# Altium schematic symbol library SG_SCH_Unsorted.SchLib: 71 symbols
Pins are listed as number, name and electrical type; pins without a type are passive.

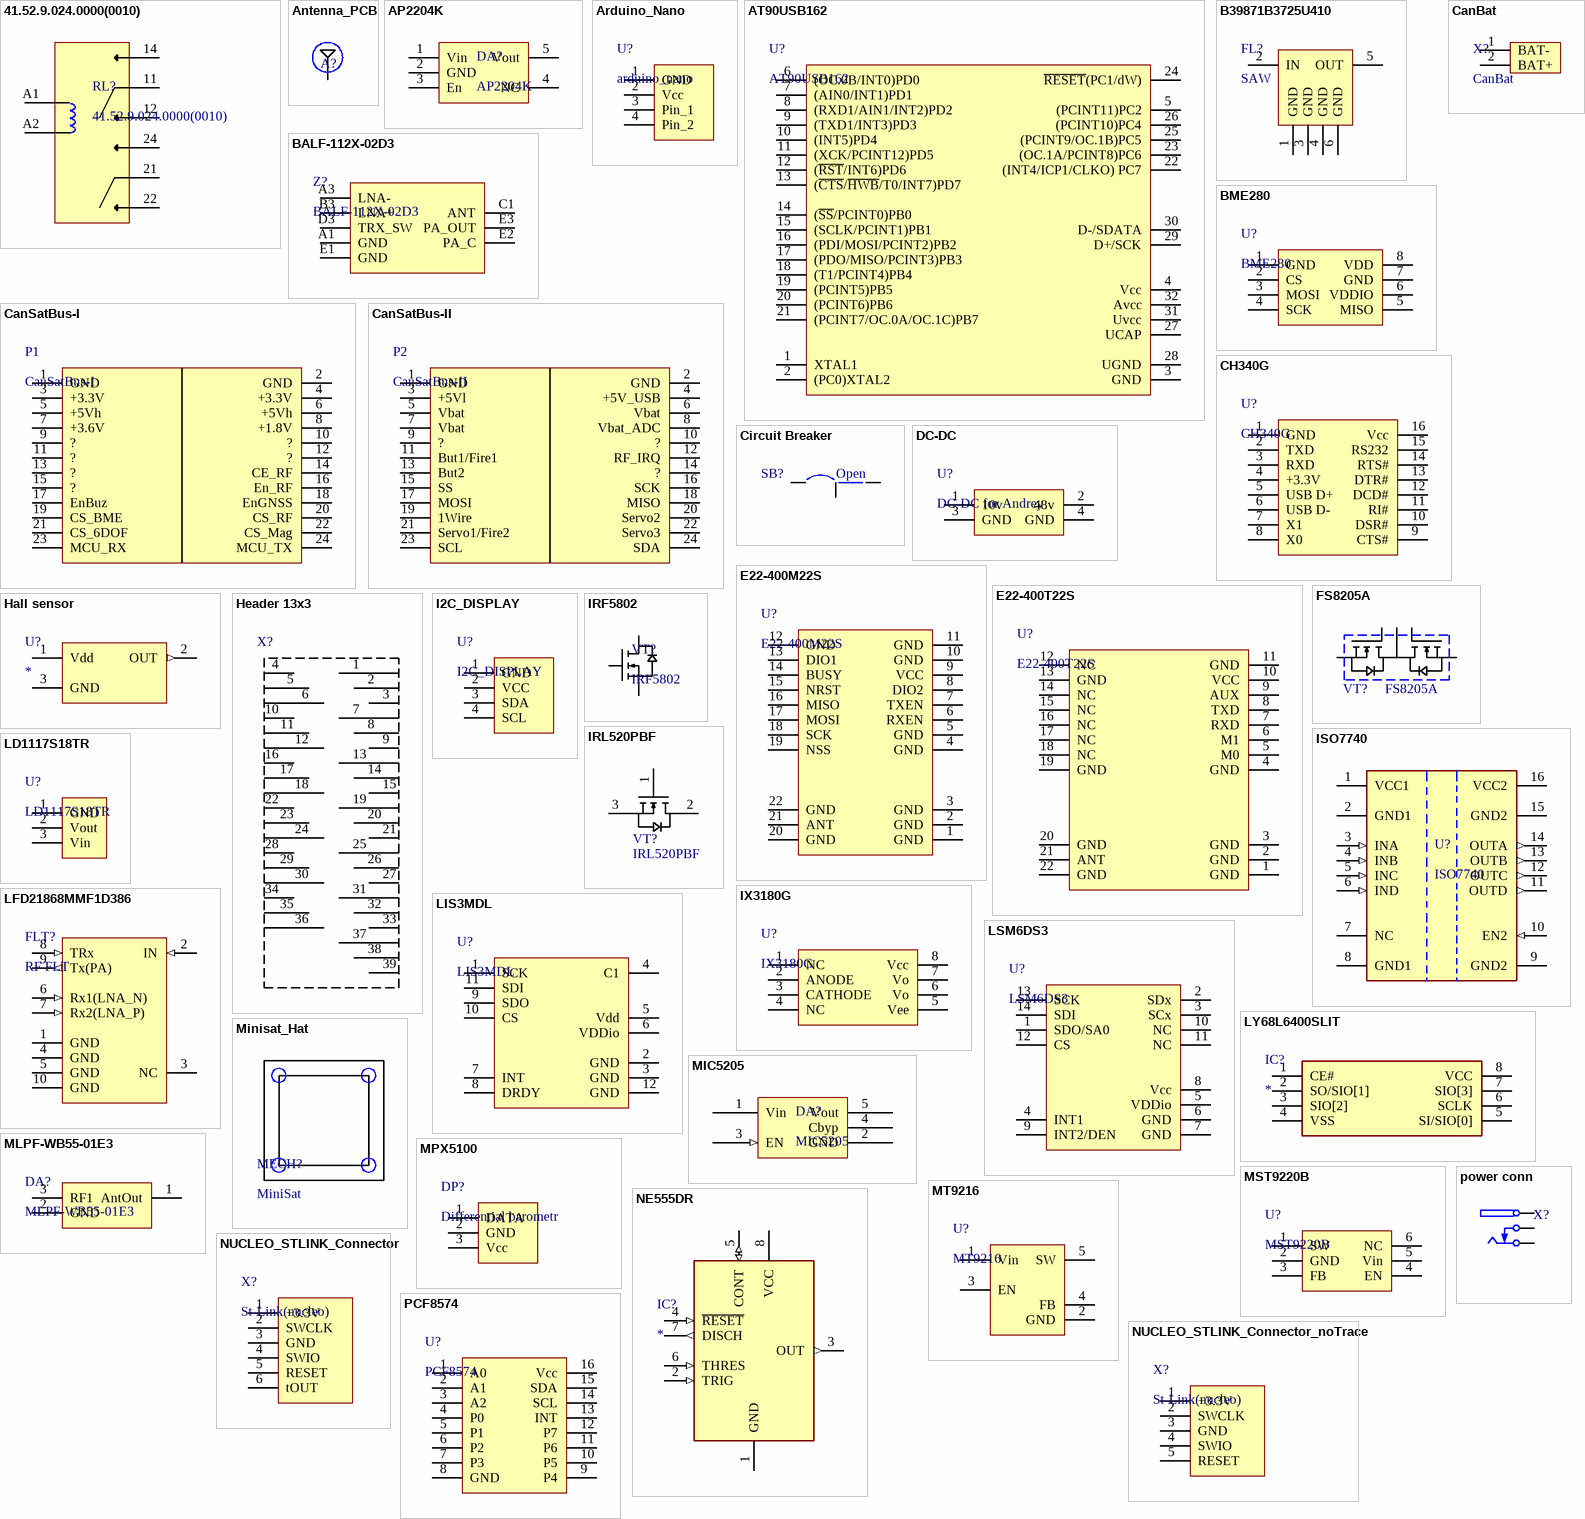
[diagram p0: symbols 41.52.9.024.0000(0010) to power conn]

## 41.52.9.024.0000(0010)
designator RL?
24V relay 2 группы контактов 8 A; DefaultOrder: NRP05-A12DH-S; OriginalSource: AltTab+CanSat; Order: *
footprint 41.52 (relay)
pins: 11, 12, 14, 21, 22, 24, A1, A2

## Antenna_PCB
designator A?, comment Ant_PCB  (value not drawn)
OriginalSource: AltTab+CanSat; Order: *
footprint Ant_PCB_868
pins: 1

## AP2204K
designator DA?
Ultra low drop voltage regulator; OriginalSource: AltTab+CanSat; Order: *; HelpURL: https://datasheet.lcsc.com/szlcsc/Diodes-Incorporated-AP2204K-5-0TRG1_C112031.pdf
footprint SOT23-5
pins: 1 Vin, 2 GND, 3 En, 4 NC, 5 Vout

## Arduino_Nano
designator U?, comment arduino_nano
8-bit on plate controller; OriginalSource: AltTab+CanSat
pins: 1 GND, 2 Vcc, 3 Pin_1, 4 Pin_2

## AT90USB162
designator U?
OriginalSource: AltTab+CanSat
footprint TQFP-32 (TQFP, 32-Leads, Body 7,00x7,00mm, Pitch 0,80mm, IPC Medium Density)
pins: 1 XTAL1, 2 (PC0)XTAL2, 3 GND, 4 Vcc, 5 (PCINT11)PC2, 6 (OC.0B/INT0)PD0, 7 (AIN0/INT1)PD1, 8 (RXD1/AIN1/INT2)PD2, 9 (TXD1/INT3)PD3, 10 (INT5)PD4, 11 (XCK/PCINT12)PD5, 12 (~{RST}/INT6)PD6, 13 (~{CTS}/~{HWB}/T0/INT7)PD7, 14 (~{SS}/PCINT0)PB0, 15 (SCLK/PCINT1)PB1, 16 (PDI/MOSI/PCINT2)PB2, 17 (PDO/MISO/PCINT3)PB3, 18 (T1/PCINT4)PB4, 19 (PCINT5)PB5, 20 (PCINT6)PB6, 21 (PCINT7/OC.0A/OC.1C)PB7, 22 (INT4/ICP1/CLKO) PC7, 23 (OC.1A/PCINT8)PC6, 24 ~{RESET}(PC1/dW), 25 (PCINT9/OC.1B)PC5, 26 (PCINT10)PC4, 27 UCAP, 28 UGND, 29 D+/SCK, 30 D-/SDATA, 31 Uvcc, 32 Avcc

## B39871B3725U410
designator FL?, comment SAW
DefaultOrder: B39871B3725U410*; OriginalSource: AltTab+CanSat
footprint QFN120P300X300X110-6M (QFN, 6-Leads, Body 3,00x3,00mm, Pitch 1,20mm/2,25mm, IPC Low Density)
pins: 1 GND (power), 2 IN (power), 3 GND (power), 4 GND (power), 5 OUT (power), 6 GND (power)

## BALF-112X-02D3
designator Z?
balun for CC112x , CC1125; OriginalSource: AltTab+CanSat
footprint BALF-112X-02D3 (balun for CC112x)
pins: A1 GND, A3 LNA-, B3 LNA+, C1 ANT, D3 TRX_SW, E1 GND, E2 PA_C, E3 PA_OUT

## BME280
designator U?
Temp/Baro/Hum sensor; OriginalSource: AltTab+CanSat; DefaultOrder: BME280
footprint LGA-8_BME280-1 (BME280)
pins: 1 GND, 2 CS, 3 MOSI, 4 SCK, 5 MISO, 6 VDDIO, 7 GND, 8 VDD

## CanBat
designator X?
1S Battery; OriginalSource: AltTab+CanSat; Order: *
footprint CanBatFootprint (General battery connector)
pins: 1 BAT- (power), 2 BAT+ (power)

## CanSatBus-I
designator P1
24 pin cansat universal bus; OriginalSource: AltTab+CanSat
footprint PLD-24-2.54
footprint PBD-24-2.54
pins: 1 GND, 2 GND, 3 +3.3V, 4 +3.3V, 5 +5Vh, 6 +5Vh, 7 +3.6V, 8 +1.8V, 9 ?, 10 ?, 11 ?, 12 ?, 13 ?, 14 CE_RF, 15 ?, 16 En_RF, 17 EnBuz, 18 EnGNSS, 19 CS_BME, 20 CS_RF, 21 CS_6DOF, 22 CS_Mag, 23 MCU_RX, 24 MCU_TX

## CanSatBus-II
designator P2
24 pin cansat universal bus; OriginalSource: AltTab+CanSat
footprint PBD-24-2.54
footprint PLD-24-2.54
pins: 1 GND, 2 GND, 3 +5Vl, 4 +5V_USB, 5 Vbat, 6 Vbat, 7 Vbat, 8 Vbat_ADC, 9 ?, 10 ?, 11 But1/Fire1, 12 RF_IRQ, 13 But2, 14 ?, 15 SS, 16 SCK, 17 MOSI, 18 MISO, 19 1Wire, 20 Servo2, 21 Servo1/Fire2, 22 Servo3, 23 SCL, 24 SDA

## CH340G
designator U?
low cost uart-usb converter; OriginalSource: AltTab+CanSat
footprint SOP16
pins: 1 GND, 2 TXD, 3 RXD, 4 +3.3V, 5 USB D+, 6 USB D-, 7 X1, 8 X0, 9 CTS#, 10 DSR#, 11 RI#, 12 DCD#, 13 DTR#, 14 RTS#, 15 RS232, 16 Vcc

## Circuit Breaker
designator SB?, comment Open
Switch OpenClose; OriginalSource: AltTab+CanSat; Revision: July-2002: Re-released for DXP Platform.
footprint SB_3pads (SMD Switch on 3 pads)
pins: 1, 2, 3

## DC-DC
designator U?, comment DC-DC for Andrey
DC-DC unkown; OriginalSource: AltTab+CanSat
pins: 1 10v, 2 48v, 3 GND, 4 GND

## E22-400M22S
designator U?
small smd lora tranceiver; OriginalSource: AltTab+CanSat
footprint E22-400M22S
pins: 1 GND, 2 GND, 3 GND, 4 GND, 5 GND, 6 RXEN, 7 TXEN, 8 DIO2, 9 VCC, 10 GND, 11 GND, 12 GND, 13 DIO1, 14 BUSY, 15 NRST, 16 MISO, 17 MOSI, 18 SCK, 19 NSS, 20 GND, 21 ANT, 22 GND

## E22-400T22S
designator U?
small smd lora tranceiver with embedded cpu; OriginalSource: AltTab+CanSat
footprint E22-400T22S
pins: 1 GND, 2 GND, 3 GND, 4 GND, 5 M0, 6 M1, 7 RXD, 8 TXD, 9 AUX, 10 VCC, 11 GND, 12 NC, 13 GND, 14 NC, 15 NC, 16 NC, 17 NC, 18 NC, 19 GND, 20 GND, 21 ANT, 22 GND

## FS8205A
designator VT?
double transistor; OriginalSource: AltTab+CanSat; DefaultOrder: FS8205A
footprint TSSOP-8 (TSOP, 8-Leads, Body 3,1x4,5mm (max), Pitch 0,65mm, IPC Medium Density)
pins: 1, 2 3, 3 4, 4, 5, 6 7, 7 6, 8 2

## Hall sensor
designator U?
Датчик Холла; OriginalSource: AltTab+CanSat; Order: *; LCSC Part #: *
footprint SOT23-3
footprint TO-92
pins: 1 Vdd (power), 2 OUT (out), 3 GND (power)

## Header 13x3
designator X?, comment Header  (value not drawn)
OriginalSource: AltTab+CanSat; Order: *
pins: 1, 2, 3, 4, 5, 6, 7, 8, 9, 10, 11, 12, 13, 14, 15, 16, 17, 18, 19, 20, 21, 22, 23, 24, 25, 26, 27, 28, 29, 30, 31, 32, 33, 34, 35, 36, 37, 38, 39

## I2C_DISPLAY
designator U?
OriginalSource: AltTab+CanSat
footprint PLS-4-2.54
pins: 1 GND, 2 VCC, 3 SDA, 4 SCL

## IRF5802
designator VT?
N Channel 150V 900mA 5.5V @ 250uA 1.2Ω @ 540mA,10V 2W Vgs=±30V; Vgs: ±30V; DefaultOrder: IRF5802TRPBF; OriginalSource: AltTab+CanSat; Order: *; HelpURL: https://datasheet.lcsc.com/szlcsc/1808281642_Infineon-Technologies-IRF5802TRPBF_C151501.pdf
footprint SOT23-6L1
pins: 1, 2, 3, 4, 5, 6

## IRL520PBF
designator VT?
IRLL014PBF; OriginalSource: AltTab+CanSat; DefaultOrder: IRL520PBF
footprint TO-220-LAY
pins: 1, 2, 3

## ISO7740
designator U?
Цифровые изоляторы; DefaultOrder: ISO7740DWR; OriginalSource: AltTab+CanSat; Order: *; LCSC Part #: C529547
footprint SO-16_300mil
pins: 1 VCC1 (power), 2 GND1 (power), 3 INA (in), 4 INB (in), 5 INC (in), 6 IND (in), 7 NC (hiz), 8 GND1 (power), 9 GND2 (power), 10 EN2 (in), 11 OUTD (out), 12 OUTC (out), 13 OUTB (out), 14 OUTA (out), 15 GND2 (power), 16 VCC2 (power)

## IX3180G
designator U?
High Speed Gate Driver Optocoupler; OriginalSource: AltTab+CanSat; IX3180G: *
pins: 1 NC, 2 ANODE, 3 CATHODE, 4 NC, 5 Vee, 6 Vo, 7 Vo, 8 Vcc

## LD1117S18TR
designator U?
1.8v 0.8A LDO; OriginalSource: AltTab+CanSat; DefaultOrder: LD1117S18TR
footprint SOT223
pins: 1 GND, 2 Vout, 3 Vin

## LFD21868MMF1D386
designator FLT?, comment RF FLT
DefaultOrder: LFD21868MMF1D386*; OriginalSource: AltTab+CanSat
footprint QFN0P200X125X70-12N (QFN, 12-Leads, Body 2,00x1,25mm, Pitch 0,50mm/0,00mm, IPC Medium Density)
pins: 1 GND (power), 2 IN (in), 3 NC, 4 GND (power), 5 GND (power), 6 Rx1(LNA_N) (in), 7 Rx2(LNA_P) (in), 8 TRx (in), 9 Tx(PA) (out), 10 GND (power)

## LIS3MDL
designator U?
3.3v SPI mag; OriginalSource: AltTab+CanSat
footprint LGA-12_LSM303CTR (LGA, 12-Leads, Body 2,00x2,00mmx1,00mm, Pitch 0,50mm)
pins: 1 SCK, 2 GND, 3 GND, 4 C1, 5 Vdd, 6 VDDio, 7 INT, 8 DRDY, 9 SDO, 10 CS, 11 SDI, 12 GND

## LSM6DS3
designator U?
SPI 3.3V accel+mag; OriginalSource: AltTab+CanSat
pins: 1 SDO/SA0, 2 SDx, 3 SCx, 4 INT1, 5 VDDio, 6 GND, 7 GND, 8 Vcc, 9 INT2/DEN, 10 NC, 11 NC, 12 CS, 13 SCK, 14 SDI

## LY68L6400SLIT
designator IC?
Integrated Circuit; OriginalSource: AltTab+CanSat; Height: 1.75mm; HelpURL: https://datasheet.lcsc.com/szlcsc/Lyontek-Inc-LY68L6400SLIT_C261881.pdf
footprint SOIC127P600X175-8N
pins: 1 CE#, 2 SO/SIO[1], 3 SIO[2], 4 VSS, 5 SI/SIO[0], 6 SCLK, 7 SIO[3], 8 VCC

## MIC5205
designator DA?
LDO with En pin; OriginalSource: AltTab+CanSat; LCSC Part #: *; HelpURL: http://ww1.microchip.com/downloads/en/DeviceDoc/20005785A.pdf
footprint SOT23-5N (SOT23, 5-Leads, Body 2,90x2,80mm, Pitch 0,95mm, IPC Medium Density)
pins: 1 Vin (power), 2 GND (power), 3 EN (in), 4 Cbyp (power), 5 Vout (power)

## Minisat_Hat
designator MECH?, comment MiniSat  (no BOM)
OriginalSource: AltTab+CanSat
footprint MiniSat_CAP (Footprint not found)

## MLPF-WB55-01E3
designator DA?
Balun for STM32WB55Cx and STM32WB55Rx; OriginalSource: AltTab+CanSat; Order: *; LCSC Part #: *; HelpURL: http://www.farnell.com/datasheets/2802556.pdf
footprint LGA-6M_MLPF-WB55-01E3 (balun for MLPF-WB55-01E3)
pins: 1 AntOut, 2 GND, 3 RF1

## MPX5100
designator DP?, comment Differential barometr
Differential, Gauge, and Absolute Integrated Pressure Sensor; DefaultOrder: MPX5100; OriginalSource: AltTab+CanSat
footprint PBS-3-2.54
pins: 1 DATA, 2 GND, 3 Vcc

## MST9220B
designator U?
step-up DC-DC 2A; OriginalSource: AltTab+CanSat; Order: *
pins: 1 SW, 2 GND, 3 FB, 4 EN, 5 Vin, 6 NC

## MT9216
designator U?
step-down DC-DC; OriginalSource: AltTab+CanSat; Order: *
footprint SOT23-5
pins: 1 Vin, 2 GND, 3 EN, 4 FB, 5 SW

## NE555DR
designator IC?
Integrated Circuit; OriginalSource: AltTab+CanSat; Height: 1.75mm; HelpURL: http://www.ti.com/lit/ds/symlink/ne555.pdf
footprint SOIC127P600X175-8N
pins: 1 GND (power), 2 TRIG (in), 3 OUT (out), 4 ~{RESET} (in), 5 CONT (io), 6 THRES (in), 7 DISCH (out), 8 VCC (power)

## NUCLEO_STLINK_Connector
designator X?, comment St-Link(nucleo)
standart nucleo programming connector; OriginalSource: AltTab+CanSat
footprint PLS-6-2.54
pins: 1 +3.3V, 2 SWCLK, 3 GND, 4 SWIO, 5 RESET, 6 tOUT

## NUCLEO_STLINK_Connector_noTrace
designator X?, comment St-Link(nucleo)
standart nucleo programming connector; OriginalSource: AltTab+CanSat
footprint PLS-5-2.54
pins: 1 +3.3V, 2 SWCLK, 3 GND, 4 SWIO, 5 RESET

## PCF8574
designator U?
I2C-GPIO expender; OriginalSource: AltTab+CanSat
footprint SO-16
pins: 1 A0, 2 A1, 3 A2, 4 P0, 5 P1, 6 P2, 7 P3, 8 GND, 9 P4, 10 P5, 11 P6, 12 P7, 13 INT, 14 SCL, 15 SDA, 16 Vcc

## power conn
designator X?
Jack Socket Thru-Hole, Vertical, 2-Conductor with Tip closed; OriginalSource: AltTab+CanSat; LCSC Part #: *; Order: *
footprint PIN1.75*O.D.4.0mm (DC jack/socket,DC023 pin1.75)
footprint DC0055A25 (DC Power Receptacle Jack 2.5A 2.5mm 6.2mm Through Hole)
footprint XKB Connectivity DC-005 (DC jack/socket,DC-005)
pins: 1 Vcc (power) "Sleeve (Ground)", 2 GND (power) "Tip", 3 Key "Tip Normal (Break Contact)"

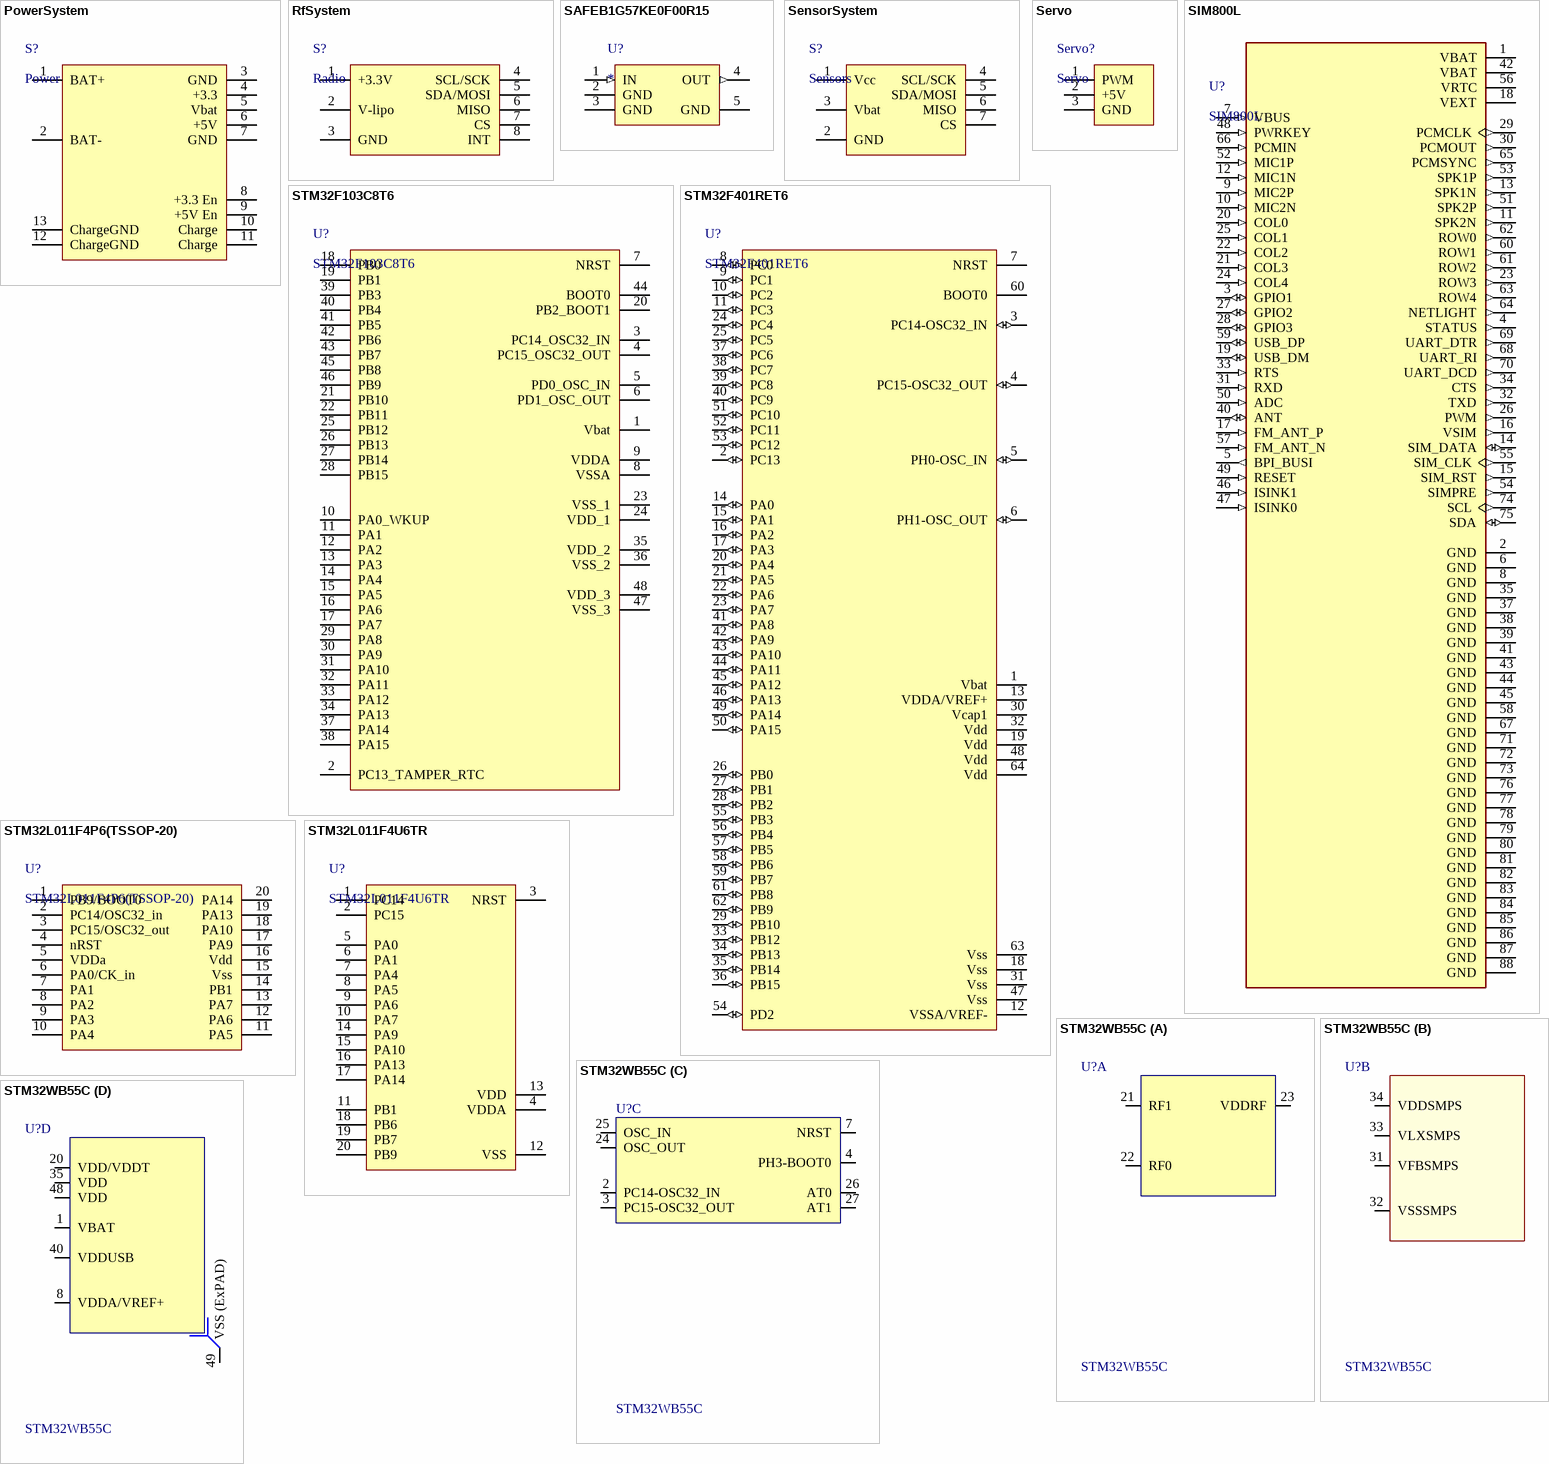
[diagram p1: symbols PowerSystem to STM32WB55C]

## PowerSystem
designator S?, comment Power
Sergey`s PowerSystem; OriginalSource: AltTab+CanSat
footprint Power_System
pins: 1 BAT+, 2 BAT-, 3 GND, 4 +3.3, 5 Vbat, 6 +5V, 7 GND, 8 +3.3 En, 9 +5V En, 10 Charge, 11 Charge, 12 ChargeGND, 13 ChargeGND

## RfSystem
designator S?, comment Radio
Sergey`s Radio System; OriginalSource: AltTab+CanSat
pins: 1 +3.3V, 2 V-lipo, 3 GND, 4 SCL/SCK, 5 SDA/MOSI, 6 MISO, 7 CS, 8 INT

## SAFEB1G57KE0F00R15
designator U?
SAW FILTER FOR GPS; OriginalSource: AltTab+CanSat; Order: *
pins: 1 IN (in), 2 GND, 3 GND, 4 OUT (out), 5 GND

## SensorSystem
designator S?, comment Sensors
Sergey`s SensorSystem; OriginalSource: AltTab+CanSat
pins: 1 Vcc, 2 GND, 3 Vbat, 4 SCL/SCK, 5 SDA/MOSI, 6 MISO, 7 CS

## Servo
designator Servo?
Generic servo; OriginalSource: AltTab+CanSat
pins: 1 PWM, 2 +5V, 3 GND

## SIM800L
designator U?
GSM-RF system on chip; OriginalSource: AltTab+CanSat
footprint MODULE_SIM800L
pins: 1 VBAT (power), 2 GND (power), 3 GPIO1 (io), 4 STATUS (out), 5 BPI_BUSI (out), 6 GND (power), 7 VBUS (in), 8 GND (power), 9 MIC2P (in), 10 MIC2N (in), 11 SPK2N (out), 12 MIC1N (in), 13 SPK1N (out), 14 SIM_DATA (io), 15 SIM_RST (out), 16 VSIM (out), 17 FM_ANT_P (in), 18 VEXT (power), 19 USB_DM (io), 20 COL0 (in), 21 COL3 (in), 22 COL2 (in), 23 ROW3 (out), 24 COL4 (in), 25 COL1 (in), 26 PWM (out), 27 GPIO2 (io), 28 GPIO3 (io), 29 PCMCLK (out), 30 PCMOUT (out), 31 RXD (in), 32 TXD (out), 33 RTS (in), 34 CTS (out), 35 GND (power), 37 GND (power), 38 GND (power), 39 GND (power), 40 ANT (io), 41 GND (power), 42 VBAT (power), 43 GND (power), 44 GND (power), 45 GND (power), 46 ISINK1 (in), 47 ISINK0 (in), 48 PWRKEY (in), 49 RESET (in), 50 ADC (in), 51 SPK2P (out), 52 MIC1P (in), 53 SPK1P (out), 54 SIMPRE (out), 55 SIM_CLK (out), 56 VRTC (power), 57 FM_ANT_N (in), 58 GND (power), 59 USB_DP (io), 60 ROW1 (out), 61 ROW2 (out), 62 ROW0 (out), 63 ROW4 (out), 64 NETLIGHT (out), 65 PCMSYNC (out), 66 PCMIN (in), 67 GND (power), 68 UART_RI (out), 69 UART_DTR (out), 70 UART_DCD (out), 71 GND (power), 72 GND (power), 73 GND (power), 74 SCL (out), 75 SDA (io), 76 GND (power), 77 GND (power), 78 GND (power), 79 GND (power), 80 GND (power), 81 GND (power), 82 GND (power), 83 GND (power), 84 GND (power), 85 GND (power), 86 GND (power), 87 GND (power), 88 GND (power)

## STM32F103C8T6
designator U?
low cost stm32 controller with USB; OriginalSource: AltTab+CanSat
footprint LQFP-48 (48-Pin Thin Quad Flat Pack 0.5 mm Pitch, IPC High Density)
pins: 1 Vbat, 2 PC13_TAMPER_RTC, 3 PC14_OSC32_IN, 4 PC15_OSC32_OUT, 5 PD0_OSC_IN, 6 PD1_OSC_OUT, 7 NRST, 8 VSSA, 9 VDDA, 10 PA0_WKUP, 11 PA1, 12 PA2, 13 PA3, 14 PA4, 15 PA5, 16 PA6, 17 PA7, 18 PB0, 19 PB1, 20 PB2_BOOT1, 21 PB10, 22 PB11, 23 VSS_1, 24 VDD_1, 25 PB12, 26 PB13, 27 PB14, 28 PB15, 29 PA8, 30 PA9, 31 PA10, 32 PA11, 33 PA12, 34 PA13, 35 VDD_2, 36 VSS_2, 37 PA14, 38 PA15, 39 PB3, 40 PB4, 41 PB5, 42 PB6, 43 PB7, 44 BOOT0, 45 PB8, 46 PB9, 47 VSS_3, 48 VDD_3

## STM32F401RET6
designator U?
32-bit STmicroelectronics MCU; OriginalSource: AltTab+CanSat; DefaultOrder: STM32F401RET6
footprint LQFP-64
pins: 1 Vbat (power), 2 PC13 (io), 3 PC14-OSC32_IN (io), 4 PC15-OSC32_OUT (io), 5 PH0-OSC_IN (io), 6 PH1-OSC_OUT (io), 7 NRST (power), 8 PC0 (io), 9 PC1 (io), 10 PC2 (io), 11 PC3 (io), 12 VSSA/VREF- (power), 13 VDDA/VREF+ (power), 14 PA0 (io), 15 PA1 (io), 16 PA2 (io), 17 PA3 (io), 18 Vss (power), 19 Vdd (power), 20 PA4 (io), 21 PA5 (io), 22 PA6 (io), 23 PA7 (io), 24 PC4 (io), 25 PC5 (io), 26 PB0 (io), 27 PB1 (io), 28 PB2 (io), 29 PB10 (io), 30 Vcap1 (power), 31 Vss (power), 32 Vdd (power), 33 PB12 (io), 34 PB13 (io), 35 PB14 (io), 36 PB15 (io), 37 PC6 (io), 38 PC7 (io), 39 PC8 (io), 40 PC9 (io), 41 PA8 (io), 42 PA9 (io), 43 PA10 (io), 44 PA11 (io), 45 PA12 (io), 46 PA13 (io), 47 Vss (power), 48 Vdd (power), 49 PA14 (io), 50 PA15 (io), 51 PC10 (io), 52 PC11 (io), 53 PC12 (io), 54 PD2 (io), 55 PB3 (io), 56 PB4 (io), 57 PB5 (io), 58 PB6 (io), 59 PB7 (io), 60 BOOT0 (power), 61 PB8 (io), 62 PB9 (io), 63 Vss (power), 64 Vdd (power)

## STM32L011F4P6(TSSOP-20)
designator U?
32bit STM32L0 tssop-20 mcu low power; OriginalSource: AltTab+CanSat
footprint TSSOP-20
pins: 1 PB9/BOOT0, 2 PC14/OSC32_in, 3 PC15/OSC32_out, 4 nRST, 5 VDDa, 6 PA0/CK_in, 7 PA1, 8 PA2, 9 PA3, 10 PA4, 11 PA5, 12 PA6, 13 PA7, 14 PB1, 15 Vss, 16 Vdd, 17 PA9, 18 PA10, 19 PA13, 20 PA14

## STM32L011F4U6TR
designator U?
small-package STM32 L-series MCU, 60 rub; OriginalSource: AltTab+CanSat
pins: 1 PC14, 2 PC15, 3 NRST, 4 VDDA, 5 PA0, 6 PA1, 7 PA4, 8 PA5, 9 PA6, 10 PA7, 11 PB1, 12 VSS, 13 VDD, 14 PA9, 15 PA10, 16 PA13, 17 PA14, 18 PB6, 19 PB7, 20 PB9

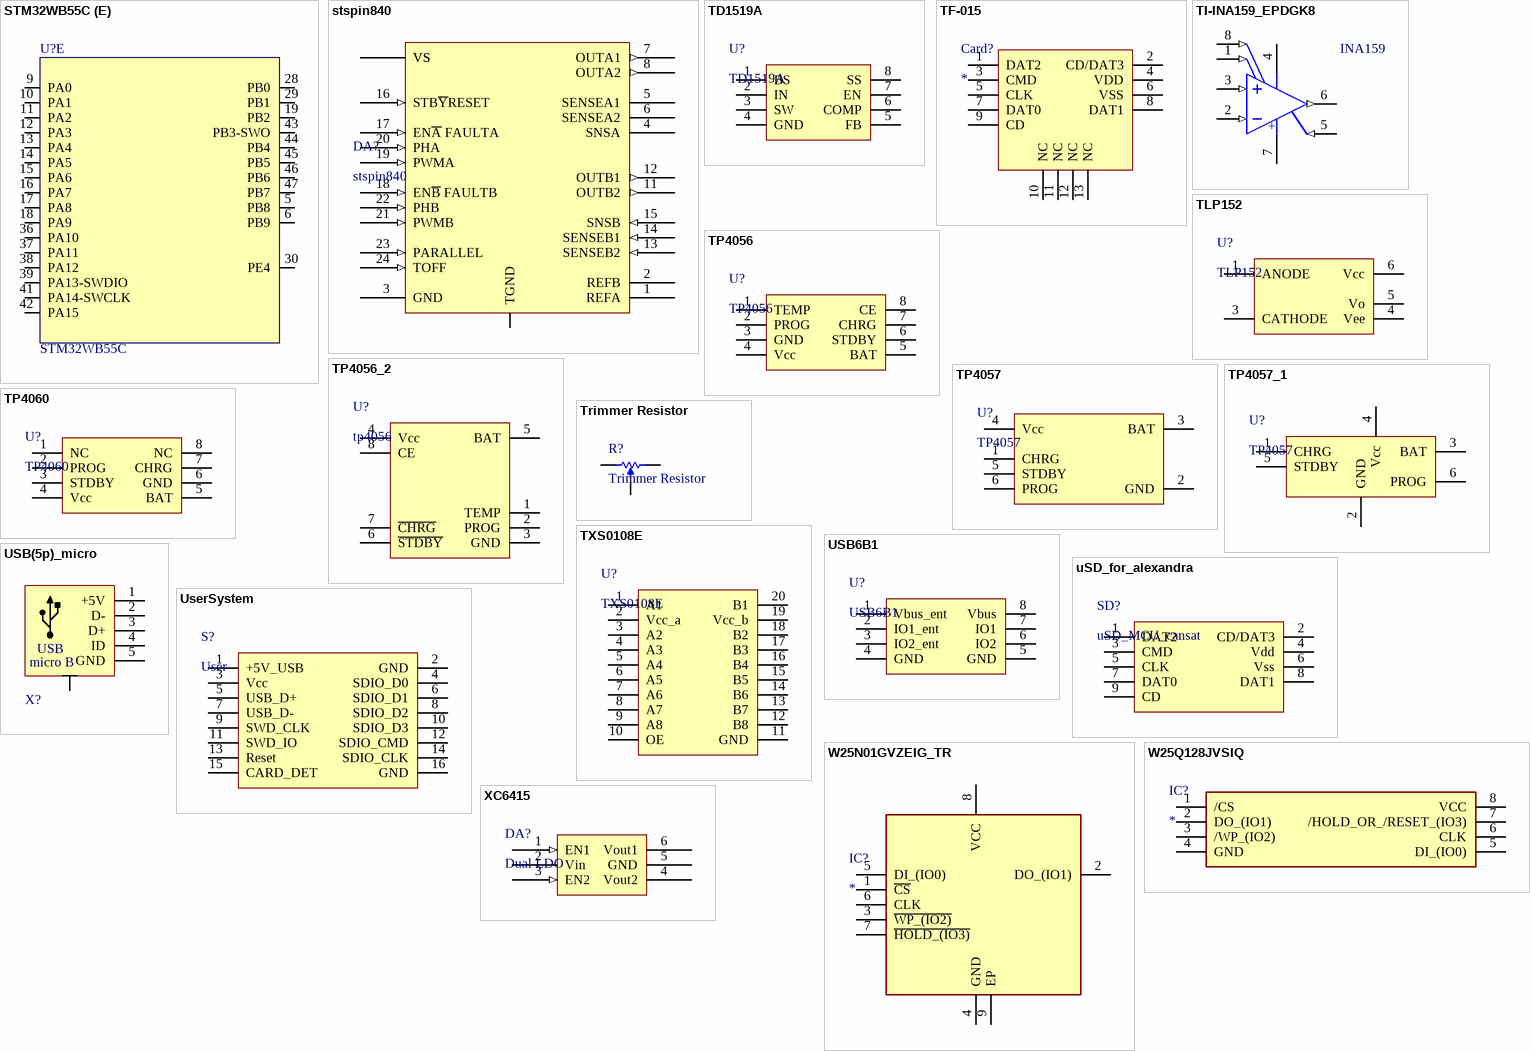
[diagram p2: symbols STM32WB55C to XC6415]

## STM32WB55C
designator U?
OriginalSource: AltTab+CanSat
footprint STM32WBxx_QFN48 (QFN48 7x7x0.55mm pitch 0.5mm)
part A pins: 21 RF1, 22 RF0, 23 VDDRF
part B pins: 31 VFBSMPS, 32 VSSSMPS, 33 VLXSMPS, 34 VDDSMPS
part C pins: 2 PC14-OSC32_IN, 3 PC15-OSC32_OUT, 4 PH3-BOOT0, 7 NRST, 24 OSC_OUT, 25 OSC_IN, 26 AT0, 27 AT1
part D pins: 1 VBAT, 8 VDDA/VREF+, 20 VDD/VDDT, 35 VDD, 40 VDDUSB, 48 VDD, 49 VSS (ExPAD)
part E pins: 5 PB8, 6 PB9, 9 PA0, 10 PA1, 11 PA2, 12 PA3, 13 PA4, 14 PA5, 15 PA6, 16 PA7, 17 PA8, 18 PA9, 19 PB2, 28 PB0, 29 PB1, 30 PE4, 36 PA10, 37 PA11, 38 PA12, 39 PA13-SWDIO, 41 PA14-SWCLK, 42 PA15, 43 PB3-SWO, 44 PB4, 45 PB5, 46 PB6, 47 PB7

## stspin840
designator DA?
Dual Full Bridge Motor Driver; OriginalSource: AltTab+CanSat; DefaultOrder: STSPIN840
footprint QFN-24M_STSPIN840 (QFN50P400X400X85_HS-25M, QFN, 24-Leads, Body 4,00x4,00mm, Pitch 0,50mm, Thermal Pad 2,60x2,60mm, IPC Low Density)
pins: 1 REFA, 2 REFB, 3 GND (power), 4 SNSA, 5 SENSEA1, 6 SENSEA2, 7 OUTA1 (out), 8 OUTA2 (out), 9 VS (power), 10 VS (power), 11 OUTB2 (out), 12 OUTB1 (out), 13 SENSEB2 (in), 14 SENSEB1 (in), 15 SNSB (in), 16 STB~{Y}RESET (in), 17 EN~{A} FAULTA (in), 18 EN~{B} FAULTB (in), 19 PWMA (in), 20 PHA (in), 21 PWMB (in), 22 PHB (in), 23 PARALLEL (in), 24 TOFF (in), 25 TGND (power)

## TD1519A
designator U?
step-down dc-dc 2A; OriginalSource: AltTab+CanSat
footprint SOP-8 (SOP, 8-Leads, Body 9.50x6.62mm, Pitch 2.54mm, IPC Medium Density)
pins: 1 BS, 2 IN, 3 SW, 4 GND, 5 FB, 6 COMP, 7 EN, 8 SS

## TF-015
designator Card?
Connector; OriginalSource: AltTab+CanSat; Height: 1.7mm; Order: *; HelpURL: https://datasheet.lcsc.com/szlcsc/SOFNG-TF-015_C113206.pdf
footprint TF015
pins: 1 DAT2, 2 CD/DAT3, 3 CMD, 4 VDD, 5 CLK, 6 VSS, 7 DAT0, 8 DAT1, 9 CD, 10 NC, 11 NC, 12 NC, 13 NC

## TI-INA159_EPDGK8
designator DA?, comment INA159
High-Speed, Precision Gain of 0.2 Level Translation Difference Amplifier, -40 to 125 degC, 8-pin SOP (DGK8), Green (RoHS & no Sb/Br); OriginalSource: AltTab+CanSat; HelpURL: http://www.ti.com/general/docs/lit/getliterature.tsp?genericPartNumber=INA159&fileType=pdf
footprint DGK0008A_M (TSOP, 8-Leads, Body 3.1x3.1mm, Pitch 0.65mm, IPC Low Density)
pins: 1 REF 1 (in), 2 IN- (in), 3 IN+ (in), 4 V- (power), 5 SENSE (in), 6 OUT (out), 7 V+ (power), 8 REF 2 (in)
text: +

## TLP152
designator U?
OriginalSource: AltTab+CanSat; IX3180G: *
pins: 1 ANODE, 3 CATHODE, 4 Vee, 5 Vo, 6 Vcc

## TP4056
designator U?
Charger; OriginalSource: AltTab+CanSat; Order: *
footprint SOP-8 (SOP, 8-Leads, Body 9.50x6.62mm, Pitch 2.54mm, IPC Medium Density)
pins: 1 TEMP, 2 PROG, 3 GND, 4 Vcc, 5 BAT, 6 STDBY, 7 CHRG, 8 CE

## TP4056_2
designator U?, comment tp4056
li-ion/li-po 1s charger 1A; OriginalSource: AltTab+CanSat
footprint SOP-8 (SOP, 8-Leads, Body 9.50x6.62mm, Pitch 2.54mm, IPC Medium Density)
pins: 1 TEMP, 2 PROG, 3 GND, 4 Vcc, 5 BAT, 6 ~{STDBY}, 7 ~{CHRG}, 8 CE

## TP4057
designator U?
li-ion/li-po linear charger in small package; DefaultOrder: TP4057 sot23-6; OriginalSource: AltTab+CanSat; LCSC Part #: *; HelpURL: https://datasheet.lcsc.com/szlcsc/Nanjing-Extension-Microelectronics-TP4057_C12044.pdf
footprint SOT23-6
pins: 1 CHRG, 2 GND, 3 BAT, 4 Vcc, 5 STDBY, 6 PROG

## TP4057_1
designator U?, comment TP4057
li-ion/li-po linear charger in small package; DefaultOrder: TP4057 sot23-6; OriginalSource: AltTab+CanSat
footprint SOT23-6
pins: 1 CHRG, 2 GND, 3 BAT, 4 Vcc, 5 STDBY, 6 PROG

## TP4060
designator U?
li-ion simple charger; OriginalSource: AltTab+CanSat; Order: *
footprint SOP-8 (SOP, 8-Leads, Body 9.50x6.62mm, Pitch 2.54mm, IPC Medium Density)
pins: 1 NC, 2 PROG, 3 STDBY, 4 Vcc, 5 BAT, 6 GND, 7 CHRG, 8 NC

## Trimmer Resistor
designator R?
Trimming Potentiometer; Angle of rotation: 240°; Resistance: * Ohm; Tolerance: ±20%; OriginalSource: AltTab+CanSat; Package: *; HelpURL: *; Order: *
footprint SMD Variable Resistors 3pin
pins: 1, 2, 3

## TXS0108E
designator U?
8 bit bi directional level converter; DefaultOrder: TXS0108E(TSSOP-20); OriginalSource: AltTab+CanSat
footprint TSSOP-20
pins: 1 A1, 2 Vcc_a, 3 A2, 4 A3, 5 A4, 6 A5, 7 A6, 8 A7, 9 A8, 10 OE, 11 GND, 12 B8, 13 B7, 14 B6, 15 B5, 16 B4, 17 B3, 18 B2, 19 Vcc_b, 20 B1

## USB6B1
designator U?
bidirect USB protect IC; OriginalSource: AltTab+CanSat
footprint SO-8 (Small Outline; 8 Leads; Body Width 3.9 mm; Pitch 1.27 mm)
pins: 1 Vbus_ent, 2 IO1_ent, 3 IO2_ent, 4 GND, 5 GND, 6 IO2, 7 IO1, 8 Vbus

## USB(5p)_micro
designator X?, comment USB 5p  (value not drawn)
USB 5-pin connector; DefaultOrder: MICRO USB; OriginalSource: AltTab+CanSat
footprint Micro-USB-B
pins: 1 +5V, 2 D-, 3 D+, 4 ID, 5 GND, MH4
text: USB; micro B

## uSD_for_alexandra
designator SD?, comment uSD_MCU_cansat
standart microSD; OriginalSource: AltTab+CanSat
pins: 1 DAT2, 2 CD/DAT3, 3 CMD, 4 Vdd, 5 CLK, 6 Vss, 7 DAT0, 8 DAT1, 9 CD

## UserSystem
designator S?, comment User
User communication; OriginalSource: AltTab+CanSat
pins: 1 +5V_USB, 2 GND, 3 Vcc, 4 SDIO_D0, 5 USB_D+, 6 SDIO_D1, 7 USB_D-, 8 SDIO_D2, 9 SWD_CLK, 10 SDIO_D3, 11 SWD_IO, 12 SDIO_CMD, 13 Reset, 14 SDIO_CLK, 15 CARD_DET, 16 GND

## W25N01GVZEIG_TR
designator IC?
Integrated Circuit; OriginalSource: AltTab+CanSat; Height: 0.8mm; HelpURL: https://www.winbond.com/resource-files/w25n01gv revg 032116.pdf
footprint SON127P800X600X80-9N-D
pins: 1 ~{CS}, 2 DO_(IO1), 3 ~{WP_(IO2)}, 4 GND, 5 DI_(IO0), 6 CLK, 7 ~{HOLD_(IO3)}, 8 VCC, 9 EP

## W25Q128JVSIQ
designator IC?
Integrated Circuit; OriginalSource: AltTab+CanSat; Height: 2.16mm; HelpURL: https://www.winbond.com/resource-files/w25q128jv%20revf%2003272018%20plus.pdf
footprint SOIC127P790X216-8N
pins: 1 /CS, 2 DO_(IO1), 3 /WP_(IO2), 4 GND, 5 DI_(IO0), 6 CLK, 7 /HOLD_OR_/RESET_(IO3), 8 VCC

## XC6415
designator DA?, comment Dual LDO
Dual LDO Regulator with ON/OFF Switch; DefaultOrder: XC6415BB17MR-G; OriginalSource: AltTab+CanSat; Order: *
footprint sot23-6L1
pins: 1 EN1 (in), 2 Vin (power), 3 EN2 (in), 4 Vout2 (power), 5 GND (power), 6 Vout1 (power)

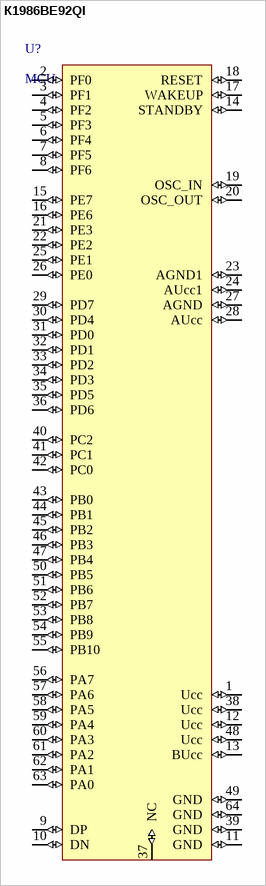
[diagram p3: symbol К1986ВЕ92QI]

## К1986ВЕ92QI
designator U?, comment MCU
32-bit Milandr MCU; OriginalSource: AltTab+CanSat; HelpURL: https://ic.milandr.ru/upload/iblock/282/2827778ea17c3622db1441aff025a631.pdf
footprint LQFP-64
ibis 4229.132-3_package (Model Description)
pins: 1 Ucc (io), 2 PF0 (io), 3 PF1 (io), 4 PF2 (io), 5 PF3 (io), 6 PF4 (io), 7 PF5 (io), 8 PF6 (io), 9 DP (io), 10 DN (io), 11 GND (io), 12 Ucc (io), 13 BUcc (io), 14 STANDBY (io), 15 PE7 (io), 16 PE6 (io), 17 WAKEUP (io), 18 RESET (io), 19 OSC_IN (io), 20 OSC_OUT (io), 21 PE3 (io), 22 PE2 (io), 23 AGND1 (io), 24 AUcc1 (io), 25 PE1 (io), 26 PE0 (io), 27 AGND (io), 28 AUcc (io), 29 PD7 (io), 30 PD4 (io), 31 PD0 (io), 32 PD1 (io), 33 PD2 (io), 34 PD3 (io), 35 PD5 (io), 36 PD6 (io), 37 NC (io), 38 Ucc (io), 39 GND (io), 40 PC2 (io), 41 PC1 (io), 42 PC0 (io), 43 PB0 (io), 44 PB1 (io), 45 PB2 (io), 46 PB3 (io), 47 PB4 (io), 48 Ucc (io), 49 GND (io), 50 PB5 (io), 51 PB6 (io), 52 PB7 (io), 53 PB8 (io), 54 PB9 (io), 55 PB10 (io), 56 PA7 (io), 57 PA6 (io), 58 PA5 (io), 59 PA4 (io), 60 PA3 (io), 61 PA2 (io), 62 PA1 (io), 63 PA0 (io), 64 GND (io)